# Altium footprint library LAB03.PcbLib: 3 footprints
Each footprint in its own frame and in the unit in brackets; x right, y up, seen from the top. Pads: shape width x height; smd on the part's side, far side on the other; paste and mask are expansions set on the pad; w line width, h text height; cw(c..) or ccw(c..) is an arc to the next point about the centre after c.
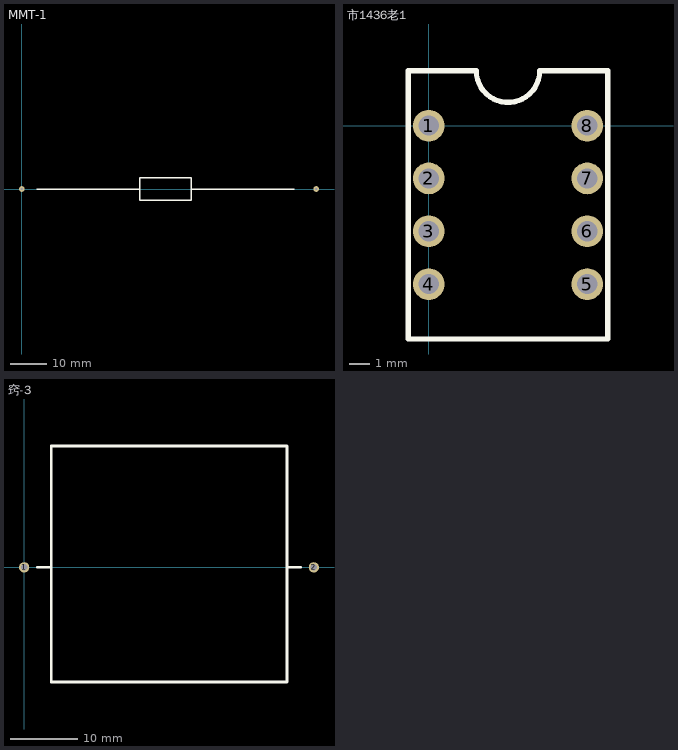
[diagram p0: the footprints below, top view; thin cyan lines are the x and y axes]

## MMT-1 [mil]
pads (2):
  round 60 hole 23.62: 1(0,0) 2(3149.61,0)
Top Overlay:
  lines w15.75: 159.06,0 1261.42,0 ; 1812.6,0 2914.96,0 ; 1261.42,-118.11 1812.6,-118.11 1812.6,118.11 1261.42,118.11 1261.42,-118.11

## 市1436老1 [mil]
pads (8):
  round 60 hole 38: 1(0,0) 2(0,-100) 3(0,-200) 4(0,-300) 5(300,-300) 6(300,-200) 7(300,-100) 8(300,0)
Top Overlay:
  lines w10: -38.98,-403.94 338.98,-403.94 338.98,103.94 210,103.94 cw(c150,103.94) 90,103.94 -38.98,103.94 -38.98,-403.94

## 窍-3 [mil]
pads (2):
  round 60 hole 39.37: 1(0,0) 2(1692.91,0)
Top Overlay:
  lines w15.75: 76.38,0 154.33,0 ; 1537.01,0 1614.96,0 ; 158.27,-669.29 1536.22,-669.29 1536.22,708.66 158.27,708.66 158.27,-669.29